# EAGLE library part TC4427 (library m_misc)
Dual MOSFET Gate Driver, Non-Inverting
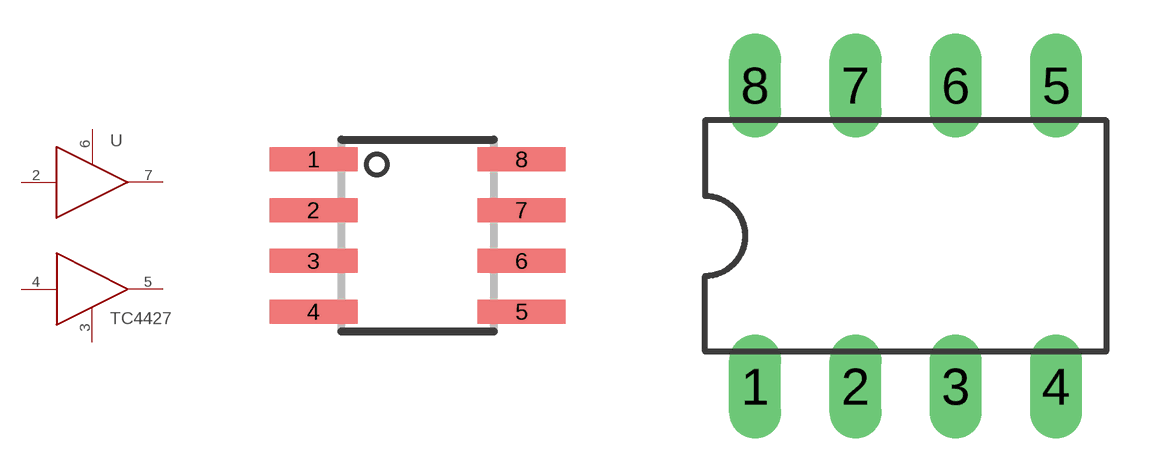
[diagram p23: symbol with the pads of SO08; footprints SO08, DIL08]

Designator prefix -

## TC4427SOIC  [SO08]
2  IN_A  in
3  GND  pas
4  IN_B  in
5  OUT_B  out
6  VDD  pas
7  OUT_A  out

## TC4427  [DIL08]
Pads as for SO08

## Footprint SO08 (pad centres in mm)
Small Outline Package 8 NS Package M08A
smd 2.2 x 0.6: 1 -2.604,1.905; 2 -2.604,0.635; 3 -2.604,-0.635; 4 -2.604,-1.905; 5 2.604,-1.905; 6 2.604,-0.635; 7 2.604,0.635; 8 2.604,1.905

## Footprint DIL08 (pad centres in mm)
Dual In Line Package
drill 0.813 long: 1 -3.81,-3.81; 2 -1.27,-3.81; 3 1.27,-3.81; 4 3.81,-3.81; 5 3.81,3.81; 6 1.27,3.81; 7 -1.27,3.81; 8 -3.81,3.81